# Altium schematic symbol library CAP(15nF, 0603, 16V, CER, X7R).SchLib: 1 symbol
Pins are listed as number, name and electrical type; pins without a type are passive.

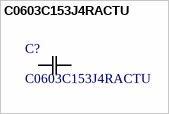
[diagram p0: symbol C0603C153J4RACTU]

## C0603C153J4RACTU
designator C?
SMD Comm X7R, Ceramic, 0.015 uF, 5%, 16 VDC, X7R, SMD, MLCC, Temperature Stable, Class II, 0603; Manufacturer: Kemet; Manufacturer_PN: C0603C153J4RACTU; Package: SMD-0603; Datasheets: https://content.kemet.com/datasheets/KEM_C1002_X7R_SMD.pdf; Digikey_Link: https://www.digikey.com/en/products/detail/kemet/C0603C153J4RACTU/2199994
footprint CAPC17595_87N_KEM
pins: 1, 2